# Altium footprint library conics_pcb_alt.PcbLib: 49 footprints (part 4 of 4)
Each footprint in its own frame and in the unit in brackets; x right, y up, seen from the top. Pads: shape width x height; smd on the part's side, far side on the other; paste and mask are expansions set on the pad; w line width, h text height; cw(c..) or ccw(c..) is an arc to the next point about the centre after c.
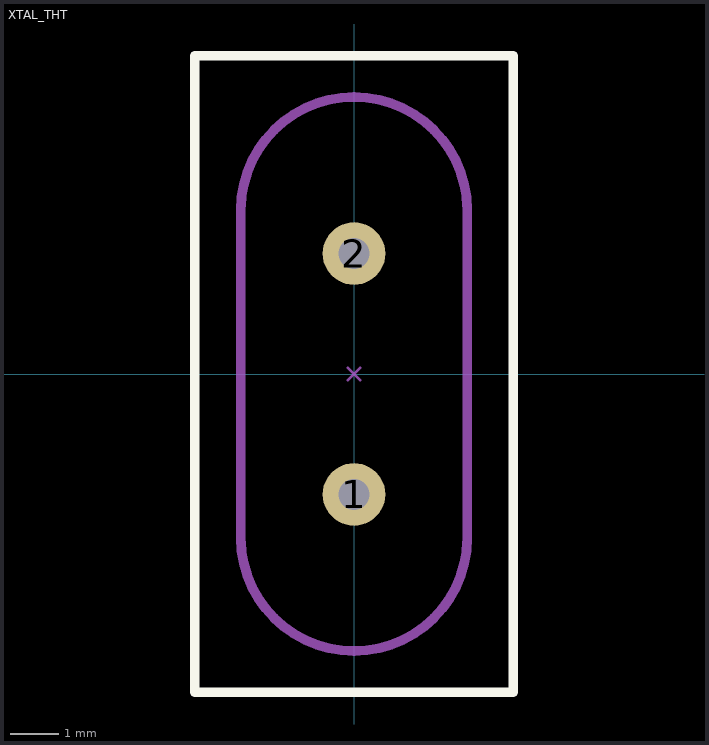
[diagram p3: the footprint, top view; thin cyan lines are the x and y axes]

## XTAL_THT [mm]
pads (2):
  round 1.3 hole 0.65: 1(0,-2.5) 2(0,2.5)
Top Overlay:
  lines w0.2: -3.302,-6.604 3.302,-6.604 3.302,6.604 -3.302,6.604 -3.302,-6.604
Mechanical 15:
  lines w0.051: -0.127,-0.127 0,0 ; -0.127,0.127 0,0 ; 0.127,-0.127 0,0 ; 0.127,0.127 0,0
  lines w0.2: -2.35,-3.4 ccw(c0,-3.4) 0,-5.75 ccw(c0,-3.4) 2.35,-3.4 2.35,3.4 ccw(c0,3.4) 0,5.75 ccw(c0,3.4) -2.35,3.4 -2.35,-3.4
  text "'.Designator'" at -6.263,-0.169 h1.02
3D body "16.000 Crysral.step": height 3.6, standoff -13.1, extent -2.325,-5.525 2.325,5.525